# EAGLE library part A4990KLPTR-T (library A4990KLPTR-T)
Automotive Dual Full Bridge Driver Source: Datasheet <https://www.allegromicro.com/-/media/files/datasheets/a4990-datasheet.ashx>
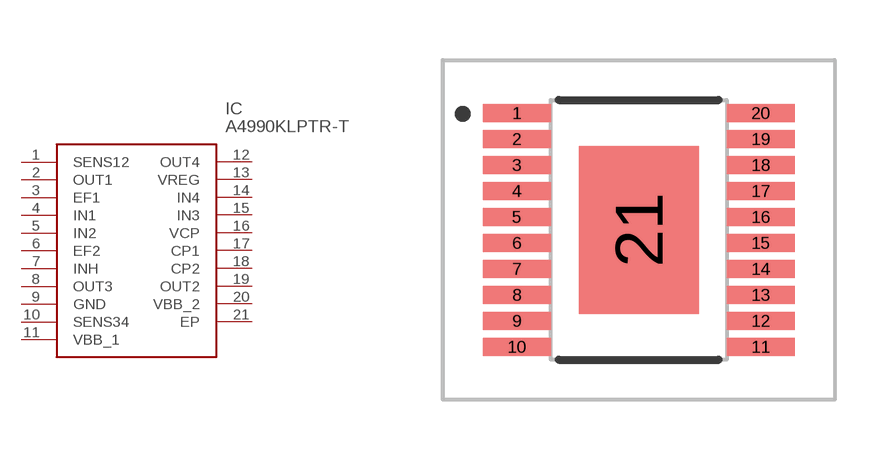
[diagram p0: symbol with the pads of A4405KLPTRT; footprint A4405KLPTRT]

Designator prefix IC

## A4990KLPTR-T (Description: Automotive Dual Full Bridge Driver; Height: 1.2mm; Manufacturer_Name: Allegro Microsystems; Manufacturer_Part_Number: A4990KLPTR-T; Mouser_Part_Number: 250-A4990KLPTR-T; Mouser_Price-Stock: https://www.mouser.co.uk/ProductDetail/Allegro-MicroSystems/A4990KLPTR-T?qs=pUKx8fyJudBvPkb0yTRqNQ%3D%3D)  [A4405KLPTRT]
1  SENS12
2  OUT1
3  EF1
4  IN1
5  IN2
6  EF2
7  INH
8  OUT3
9  GND
10  SENS34
11  VBB_1
12  OUT4
13  VREG
14  IN4
15  IN3
16  VCP
17  CP1
18  CP2
19  OUT2
20  VBB_2
21  EP

## Footprint A4405KLPTRT (pad centres in mm)
LP,20-Lead TSSOP
smd 1.7 x 0.45: 1 -3.05,2.925; 2 -3.05,2.275; 3 -3.05,1.625; 4 -3.05,0.975; 5 -3.05,0.325; 6 -3.05,-0.325; 7 -3.05,-0.975; 8 -3.05,-1.625; 9 -3.05,-2.275; 10 -3.05,-2.925; 11 3.05,-2.925; 12 3.05,-2.275; 13 3.05,-1.625; 14 3.05,-0.975; 15 3.05,-0.325; 16 3.05,0.325; 17 3.05,0.975; 18 3.05,1.625; 19 3.05,2.275; 20 3.05,2.925
smd 3 x 4.2: 21 0,0